# Altium footprint library BUTTON_SW.PcbLib: 1 footprints
Each footprint in its own frame and in the unit in brackets; x right, y up, seen from the top. Pads: shape width x height; smd on the part's side, far side on the other; paste and mask are expansions set on the pad; w line width, h text height; cw(c..) or ccw(c..) is an arc to the next point about the centre after c.
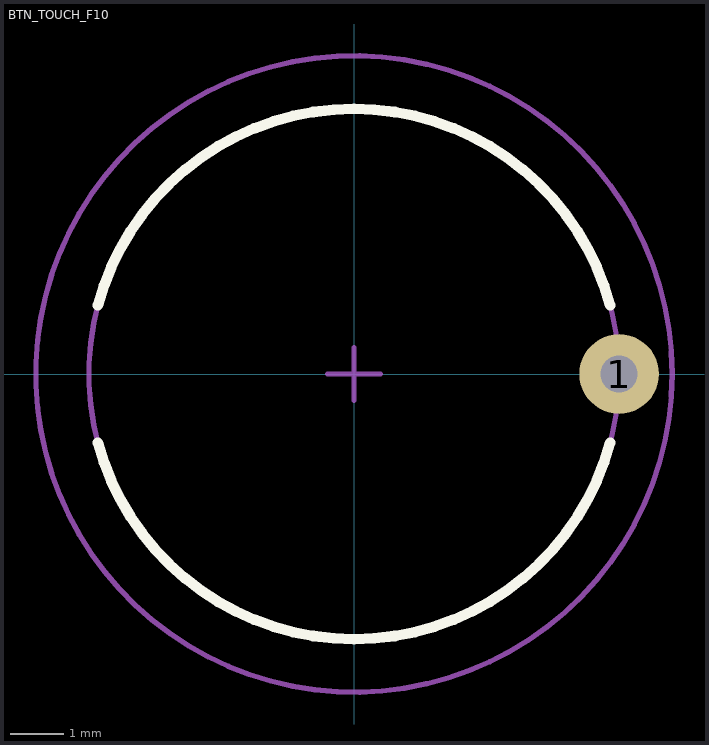
[diagram p0: the footprint, top view; thin cyan lines are the x and y axes]

## BTN_TOUCH_F10 [mm]
pads (1):
  round 1.5 hole 0.7 mask+0.076: 1(5,0)
Top Overlay:
  lines w0.2: -4.83,-1.294 ccw(c0,0) 4.83,-1.294 ; -4.83,1.294 cw(c0,0) 4.83,1.294
Mechanical 15:
  circle w0.1: c0,0 r6
  lines w0.1: -0.5,0 0.5,0 ; 0,-0.5 0,0.5
Mechanical 29:
  circle w0.1: c0,0 r5
  text "'.Designator'" at -3.88,-0.212 h1.5
3D body "Spring1.step": height 13, standoff 0, extent -5.001,-4.999 5.002,5.001